# Altium footprint library CHXXX.pcblib: 166 footprints (part 6 of 11)
Each footprint in its own frame and in the unit in brackets; x right, y up, seen from the top. Pads: shape width x height; smd on the part's side, far side on the other; paste and mask are expansions set on the pad; w line width, h text height; cw(c..) or ccw(c..) is an arc to the next point about the centre after c.
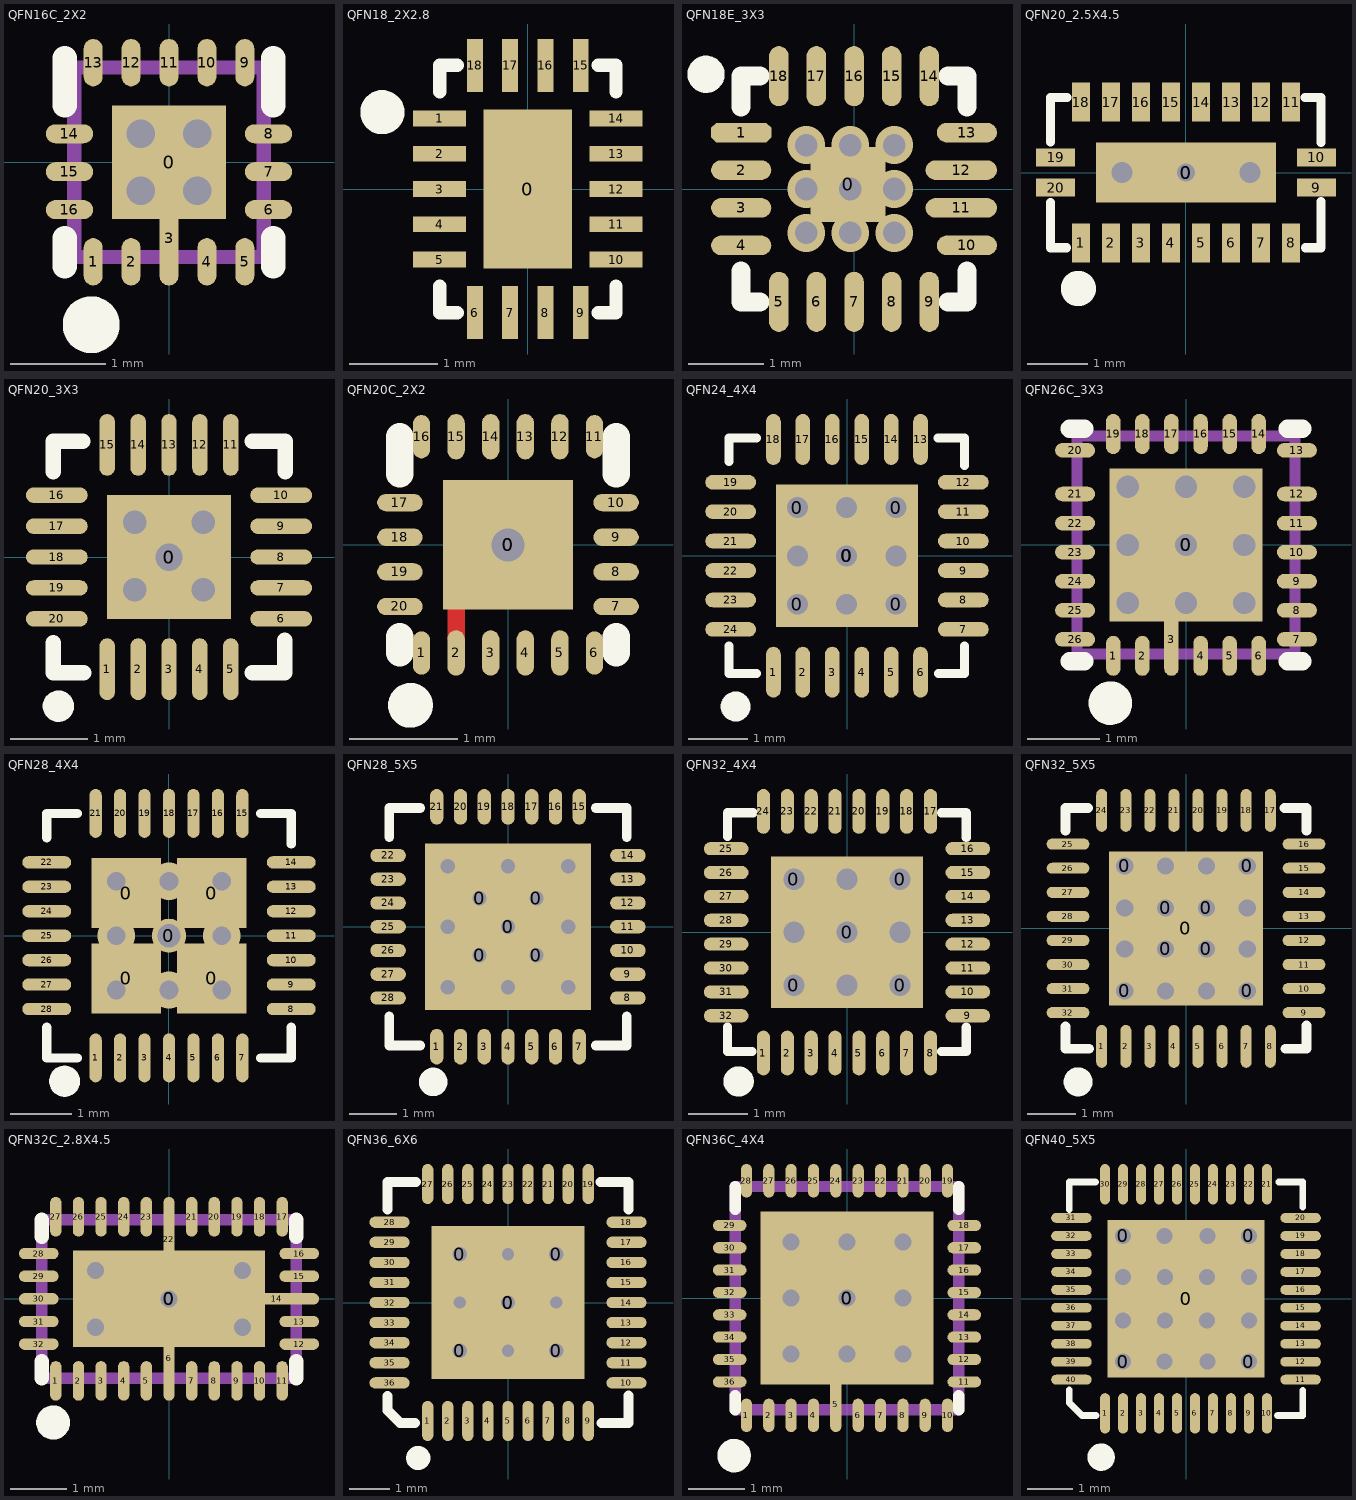
[diagram p5: the footprints below, top view; thin cyan lines are the x and y axes]

## QFN16C_2X2 [mm]
height 9.7
pads (17):
  rect 1.2x1.2 smd mask+0.051: 0(0,0)
  oval 0.2x0.5 smd mask+0.051: 1(-0.8,-1.05) 2(-0.4,-1.05) 4(0.4,-1.05) 5(0.8,-1.05) 9(0.8,1.05) 10(0.4,1.05) 11(0,1.05) 12(-0.4,1.05) 13(-0.8,1.05)
  oval 0.2x1 smd mask+0.051: 3(0,-0.8)
  oval 0.5x0.2 smd mask+0.051: 6(1.05,-0.5) 7(1.05,-0.1) 8(1.05,0.3) 14(-1.05,0.3) 15(-1.05,-0.1) 16(-1.05,-0.5)
via -0.3,0.3 diameter 0.45 hole 0.3
via 0.3,0.3 diameter 0.45 hole 0.3
via 0.3,-0.3 diameter 0.45 hole 0.3
via -0.3,-0.3 diameter 0.45 hole 0.3
TopOverlay:
  circle w0.3: c-0.821,-1.715 r0.15
  lines w0.254: -1.1,-1.1 -1.1,-0.8 ; -1.1,0.6 -1.1,1.1 ; 1.1,-1.1 1.1,-0.8 ; 1.1,0.6 1.1,1.1
Mechanical15:
  lines w0.15: -1,-1 1,-1 1,1 -1,1 -1,-1

## QFN18_2X2.8 [mm]
pads (19):
  rect 1x1.8 smd mask+0.051: 0(0,0)
  rect 0.6x0.18 smd mask+0.051: 1(-1,0.8) 2(-1,0.4) 3(-1,0) 4(-1,-0.4) 5(-1,-0.8) 10(1,-0.8) 11(1,-0.4) 12(1,0) 13(1,0.4) 14(1,0.8)
  rect 0.18x0.6 smd mask+0.051: 6(-0.6,-1.4) 7(-0.2,-1.4) 8(0.2,-1.4) 9(0.6,-1.4) 15(0.6,1.4) 16(0.2,1.4) 17(-0.2,1.4) 18(-0.6,1.4)
TopOverlay:
  circle w0.3: c-1.648,0.871 r0.1
  lines w0.152: -1,-1.1 -1,-1.4 -0.8,-1.4 ; -1,1.1 -1,1.4 -0.8,1.4 ; 0.8,-1.4 1,-1.4 1,-1.1 ; 0.8,1.4 1,1.4 1,1.1

## QFN18E_3X3 [mm]
height 1.3
pads (19):
  rect 1x1 smd mask+0.051: 0(-0.08,0.06)
  oct 0.8x0.26 smd mask+0.051: 1(-1.5,0.75)
  oval 0.8x0.26 smd mask+0.051: 2(-1.5,0.25) 3(-1.5,-0.25) 4(-1.5,-0.75) 10(1.5,-0.75) 13(1.5,0.75)
  oval 0.26x0.8 smd mask+0.051: 5(-1,-1.5) 6(-0.5,-1.5) 7(0,-1.5) 8(0.5,-1.5) 9(1,-1.5) 14(1,1.5) 15(0.5,1.5) 16(0,1.5) 17(-0.5,1.5) 18(-1,1.5)
  oval 0.95x0.26 smd mask+0.051: 11(1.425,-0.25) 12(1.425,0.25)
via -0.051,0 diameter 0.5 hole 0.3
via -0.635,-0.584 diameter 0.5 hole 0.3
via -0.051,-0.584 diameter 0.5 hole 0.3
via 0.533,-0.584 diameter 0.5 hole 0.3
via 0.533,0 diameter 0.5 hole 0.3
via 0.533,0.584 diameter 0.5 hole 0.3
via -0.635,0.584 diameter 0.5 hole 0.3
via -0.635,0 diameter 0.5 hole 0.3
via -0.051,0.584 diameter 0.5 hole 0.3
TopOverlay:
  circle w0.254: c-1.966,1.525 r0.121
  lines w0.254: -1.5,-1.092 -1.5,-1.5 -1.251,-1.5 ; -1.5,1.092 -1.5,1.5 -1.251,1.5 ; 1.251,-1.5 1.5,-1.5 1.5,-1.092 ; 1.251,1.5 1.5,1.5 1.5,1.092

## QFN20_2.5X4.5 [mm]
pads (22):
  rect 3x1 smd mask+0.051: 0(0,0)
  round 0.559 hole 0.305 mask+0.102: 0(0,0)
  rect 0.3x0.65 smd mask+0.051: 1(-1.75,-1.17) 2(-1.25,-1.17) 3(-0.75,-1.17) 4(-0.25,-1.17) 5(0.25,-1.17) 6(0.75,-1.17) 7(1.25,-1.17) 8(1.75,-1.17) 11(1.75,1.17) 12(1.25,1.17) 13(0.75,1.17) 14(0.25,1.17) 15(-0.25,1.17) 16(-0.75,1.17) 17(-1.25,1.17) 18(-1.75,1.17)
  rect 0.65x0.3 smd mask+0.051: 9(2.17,-0.25) 10(2.17,0.25) 19(-2.17,0.25) 20(-2.17,-0.25)
via 1.064,0 diameter 0.508 hole 0.356
via -1.064,0 diameter 0.508 hole 0.356
TopOverlay:
  circle w0.35: c-1.79,-1.93 r0.118
  lines w0.152: -2.257,-0.5 -2.257,-1.251 -1.99,-1.251 ; -2.257,0.51 -2.257,1.249 -1.98,1.249 ; 1.98,1.249 2.243,1.249 2.243,0.5 ; 1.99,-1.251 2.243,-1.251 2.243,-0.48

## QFN20_3X3 [mm]
pads (22):
  rect 1.6x1.6 smd mask+0.051: 0(0,0)
  round 0.508 hole 0.356: 0(0,0)
  oval 0.2x0.8 smd mask+0.051: 1(-0.8,-1.451) 2(-0.4,-1.451) 3(0,-1.451) 4(0.4,-1.451) 5(0.8,-1.451) 11(0.8,1.451) 12(0.4,1.451) 13(0,1.451) 14(-0.4,1.451) 15(-0.8,1.451)
  oval 0.8x0.2 smd mask+0.051: 6(1.451,-0.8) 7(1.451,-0.4) 8(1.451,0) 9(1.451,0.4) 10(1.451,0.8) 16(-1.451,0.8) 17(-1.451,0.4) 18(-1.451,0) 19(-1.451,-0.4) 20(-1.451,-0.8)
via 0.442,-0.422 diameter 0.508 hole 0.305
via -0.442,0.449 diameter 0.508 hole 0.305
via -0.442,-0.422 diameter 0.508 hole 0.305
via 0.442,0.449 diameter 0.508 hole 0.305
TopOverlay:
  circle w0.203: c-1.431,-1.93 r0.102
  lines w0.203: -1.497,-1.108 -1.497,-1.5 -1.105,-1.5 ; -1.497,1.105 -1.497,1.5 -1.118,1.5 ; 1.079,-1.5 1.5,-1.5 1.5,-1.08 ; 1.082,1.5 1.503,1.5 1.503,1.108

## QFN20C_2X2 [mm]
pads (22):
  rect 1.2x1.2 smd mask+0.051: 0(0,0)
  round 0.508 hole 0.305 mask+0.051: 0(0,0)
  oval 0.16x0.4 smd mask+0.051: 1(-0.8,-1) 6(0.8,-1) 11(0.8,1) 16(-0.8,1)
  oval 0.16x0.42 smd mask+0.051: 2(-0.48,-1) 3(-0.16,-1) 4(0.16,-1) 5(0.48,-1) 12(0.48,1) 13(0.16,1) 14(-0.16,1) 15(-0.48,1)
  oval 0.42x0.16 smd mask+0.051: 7(1,-0.57) 8(1,-0.25) 9(1,0.07) 10(1,0.39) 17(-1,0.39) 18(-1,0.07) 19(-1,-0.25) 20(-1,-0.57)
TopLayer:
  rectangle: -0.56,-0.881 -0.4,-0.463
TopOverlay:
  circle w0.254: c-0.903,-1.485 r0.08
  lines w0.254: -1,-1 -1,-0.85 ; -1,0.655 -1,1 ; 1,-1 1,-0.85 ; 1,0.655 1,1
TopSolder:
  rectangle: -0.611,-0.881 -0.349,-0.463

## QFN24_4X4 [mm]
pads (30):
  round 0.508 hole 0.356: 0(-0.844,-0.823) 0(-0.844,0.818) 0(-0.005,-0.003) 0(0.833,-0.823) 0(0.833,0.818)
  rect 2.413x2.413 smd mask+0.051: 0(0,0)
  oval 0.25x0.864 smd mask+0.051: 1(-1.25,-1.976) 2(-0.75,-1.976) 3(-0.25,-1.976) 4(0.25,-1.976) 5(0.75,-1.976) 6(1.25,-1.976) 13(1.25,1.976) 14(0.75,1.976) 15(0.25,1.976) 16(-0.25,1.976) 17(-0.75,1.976) 18(-1.25,1.976)
  oval 0.864x0.25 smd mask+0.051: 7(1.976,-1.25) 8(1.976,-0.75) 9(1.976,-0.25) 10(1.976,0.25) 11(1.976,0.75) 12(1.976,1.25) 19(-1.976,1.25) 20(-1.976,0.75) 21(-1.976,0.25) 22(-1.976,-0.25) 23(-1.976,-0.75) 24(-1.976,-1.25)
via -0.005,0.818 diameter 0.508 hole 0.356
via -0.844,-0.003 diameter 0.508 hole 0.356
via -0.005,-0.823 diameter 0.508 hole 0.356
via 0.833,-0.003 diameter 0.508 hole 0.356
TopOverlay:
  circle w0.254: c-1.892,-2.56 r0.127
  lines w0.152: -2.006,-1.535 -2.006,-2 -1.537,-2 ; -2.006,1.6 -2.006,2 -1.536,2 ; 1.541,2 1.994,2 1.994,1.534 ; 1.551,-2 1.994,-2 1.994,-1.535

## QFN26C_3X3 [mm]
pads (28):
  rect 2.1x2.1 smd mask+0.051: 0(0,0)
  round 0.6 hole 0.3 mask+0.051: 0(0,0)
  oval 0.2x0.55 smd mask+0.051: 1(-1,-1.525) 2(-0.6,-1.525) 4(0.2,-1.525) 5(0.6,-1.525) 6(1,-1.525) 14(1,1.525) 15(0.6,1.525) 16(0.2,1.525) 17(-0.2,1.525) 18(-0.6,1.525) 19(-1,1.525)
  oval 0.2x1 smd mask+0.051: 3(-0.2,-1.3)
  oval 0.55x0.2 smd mask+0.051: 7(1.525,-1.3) 8(1.525,-0.9) 9(1.525,-0.5) 10(1.525,-0.1) 11(1.525,0.3) 12(1.525,0.7) 13(1.525,1.3) 20(-1.525,1.3) 21(-1.525,0.7) 22(-1.525,0.3) 23(-1.525,-0.1) 24(-1.525,-0.5) 25(-1.525,-0.9) 26(-1.525,-1.3)
via -0.8,0 diameter 0.508 hole 0.305
via -0.8,-0.8 diameter 0.508 hole 0.305
via 0,-0.8 diameter 0.508 hole 0.305
via 0.8,-0.8 diameter 0.508 hole 0.305
via 0.8,0 diameter 0.508 hole 0.305
via 0.8,0.8 diameter 0.508 hole 0.305
via 0,0.8 diameter 0.508 hole 0.305
via -0.8,0.8 diameter 0.508 hole 0.305
TopOverlay:
  circle w0.3: c-1.04,-2.175 r0.15
  lines w0.254: -1.6,-1.6 -1.4,-1.6 ; -1.6,1.6 -1.4,1.6 ; 1.4,-1.6 1.6,-1.6 ; 1.4,1.6 1.6,1.6
Mechanical15:
  lines w0.15: -1.5,-1.5 1.5,-1.5 1.5,1.5 -1.5,1.5 -1.5,-1.5

## QFN28_4X4 [mm]
pads (33):
  rect 1.143x1.143 smd mask+0: 0(-0.699,-0.699) 0(-0.699,0.698) 0(0.699,-0.699) 0(0.699,0.698)
  round 0.559 hole 0.381 mask+0.051: 0(0,0)
  oval 0.2x0.8 smd mask+0.051: 1(-1.2,-2) 2(-0.8,-2) 3(-0.4,-2) 4(0,-2) 5(0.4,-2) 6(0.8,-2) 7(1.2,-2) 15(1.2,2) 16(0.8,2) 17(0.4,2) 18(0,2) 19(-0.4,2) 20(-0.8,2) 21(-1.2,2)
  oval 0.8x0.2 smd mask+0.051: 8(2,-1.2) 9(2,-0.8) 10(2,-0.4) 11(2,0) 12(2,0.4) 13(2,0.8) 14(2,1.2) 22(-2,1.2) 23(-2,0.8) 24(-2,0.4) 25(-2,0) 26(-2,-0.4) 27(-2,-0.8) 28(-2,-1.2)
via -0.864,-0.889 diameter 0.61 hole 0.305
via 0.864,-0.889 diameter 0.61 hole 0.305
via 0.864,0.889 diameter 0.61 hole 0.305
via -0.864,0.889 diameter 0.61 hole 0.305
via -0.864,0 diameter 0.61 hole 0.305
via 0.864,0 diameter 0.61 hole 0.305
via 0,-0.889 diameter 0.61 hole 0.305
via 0,0.889 diameter 0.61 hole 0.305
TopOverlay:
  circle w0.254: c-1.708,-2.381 r0.127
  lines w0.152: -2,-1.5 -2,-2 -1.5,-2 ; -2,1.6 -2,2 -1.5,2 ; 1.5,-2 2,-2 2,-1.5 ; 1.5,2 2,2 2,1.5

## QFN28_5X5 [mm]
pads (33):
  round 0.508 hole 0.3: 0(-0.6,-0.6) 0(-0.6,0.6) 0(0.6,-0.6) 0(0.6,0.6)
  rect 3.5x3.5 smd mask+0.051: 0(0,0)
  oval 0.28x0.75 smd mask+0.051: 1(-1.5,-2.525) 2(-1,-2.525) 3(-0.5,-2.525) 4(0,-2.525) 5(0.5,-2.525) 6(1,-2.525) 7(1.5,-2.525) 15(1.5,2.525) 16(1,2.525) 17(0.5,2.525) 18(0,2.525) 19(-0.5,2.525) 20(-1,2.525) 21(-1.5,2.525)
  oval 0.75x0.28 smd mask+0.051: 8(2.525,-1.5) 9(2.525,-1) 10(2.525,-0.5) 11(2.525,0) 12(2.525,0.5) 13(2.525,1) 14(2.525,1.5) 22(-2.525,1.5) 23(-2.525,1) 24(-2.525,0.5) 25(-2.525,0) 26(-2.525,-0.5) 27(-2.525,-1) 28(-2.525,-1.5)
via 0,1.27 diameter 0.61 hole 0.305
via 1.27,1.27 diameter 0.61 hole 0.305
via 1.27,0 diameter 0.61 hole 0.305
via 1.27,-1.27 diameter 0.61 hole 0.305
via 0,-1.27 diameter 0.61 hole 0.305
via -1.27,-1.27 diameter 0.61 hole 0.305
via -1.27,0 diameter 0.61 hole 0.305
via -1.27,1.27 diameter 0.61 hole 0.305
via 0,0 diameter 0.61 hole 0.305
TopOverlay:
  circle w0.305: c-1.573,-3.268 r0.148
  lines w0.203: -2.5,-1.885 -2.5,-2.5 -1.85,-2.5 ; -2.5,1.885 -2.5,2.5 -1.85,2.5 ; 1.85,-2.5 2.5,-2.5 2.5,-1.885 ; 1.85,2.5 2.5,2.5 2.5,1.885

## QFN32_4X4 [mm]
pads (37):
  round 0.508 hole 0.356: 0(-0.889,-0.887) 0(-0.889,0.887) 0(0.889,-0.887) 0(0.889,0.887)
  rect 2.54x2.54 smd mask+0.102: 0(0,0)
  oval 0.22x0.75 smd mask+0.051: 1(-1.4,-2.025) 2(-1,-2.025) 3(-0.6,-2.025) 4(-0.2,-2.025) 5(0.2,-2.025) 6(0.6,-2.025) 7(1,-2.025) 8(1.4,-2.025) 17(1.4,2.025) 18(1,2.025) 19(0.6,2.025) 20(0.2,2.025) 21(-0.2,2.025) 22(-0.6,2.025) 23(-1,2.025) 24(-1.4,2.025)
  oval 0.75x0.22 smd mask+0.051: 9(2.025,-1.4) 10(2.025,-1) 11(2.025,-0.6) 12(2.025,-0.2) 13(2.025,0.2) 14(2.025,0.6) 15(2.025,1) 16(2.025,1.4) 25(-2.025,1.4) 26(-2.025,1) 27(-2.025,0.6) 28(-2.025,0.2) 29(-2.025,-0.2) 30(-2.025,-0.6) 31(-2.025,-1) 32(-2.025,-1.4)
via 0,0.887 diameter 0.508 hole 0.356
via -0.889,0 diameter 0.508 hole 0.356
via 0,-0.887 diameter 0.508 hole 0.356
via 0.889,0 diameter 0.508 hole 0.356
via 0,0 diameter 0.508 hole 0.356
TopOverlay:
  circle w0.254: c-1.816,-2.501 r0.127
  lines w0.152: -2.001,-1.591 -2.001,-1.998 -1.595,-1.998 ; -2.001,1.602 -2.001,2.002 -1.574,2.002 ; 1.583,2.002 1.999,2.002 1.999,1.59 ; 1.585,-1.998 1.999,-1.998 1.999,-1.593

## QFN32_5X5 [mil]
pads (41):
  round 20 hole 14: 0(-50.12,-51.11) 0(-50.12,51.11) 0(-16.71,-16.7) 0(-16.71,16.7) 0(16.71,-16.7) 0(16.71,16.7) 0(50.12,-51.11) 0(50.12,51.11)
  rect 125.98x125.98 smd mask+4: 0(0,0)
  oval 9x35 smd mask+2: 1(-68.9,-96.49) 2(-49.21,-96.49) 3(-29.53,-96.49) 4(-9.84,-96.49) 5(9.84,-96.49) 6(29.53,-96.49) 7(49.21,-96.49) 8(68.9,-96.49) 17(68.9,96.49) 18(49.21,96.49) 19(29.53,96.49) 20(9.84,96.49) 21(-9.84,96.49) 22(-29.53,96.49) 23(-49.21,96.49) 24(-68.9,96.49)
  oval 35x9 smd mask+2: 9(96.49,-68.9) 10(96.49,-49.21) 11(96.49,-29.53) 12(96.49,-9.84) 13(96.49,9.84) 14(96.49,29.53) 15(96.49,49.21) 16(96.49,68.9) 25(-96.49,68.9) 26(-96.49,49.21) 27(-96.49,29.53) 28(-96.49,9.84) 29(-96.49,-9.84) 30(-96.49,-29.53) 31(-96.49,-49.21) 32(-96.49,-68.9)
via -16.71,51.11 diameter 20 hole 14
via 16.71,51.11 diameter 20 hole 14
via 50.12,16.7 diameter 20 hole 14
via 50.12,-16.7 diameter 20 hole 14
via 16.71,-51.11 diameter 20 hole 14
via -16.71,-51.11 diameter 20 hole 14
via -50.12,-16.7 diameter 20 hole 14
via -50.12,16.7 diameter 20 hole 14
TopOverlay:
  circle w12: c-88.22,-125.47 r5.84
  lines w8: -98.43,-80.19 -98.43,-98.43 -79.38,-98.43 ; -98.43,79.88 -98.43,98.43 -80.12,98.43 ; 80.43,98.43 98.42,98.43 98.42,79.79 ; 81.23,-98.43 98.42,-98.43 98.42,-79.42

## QFN32C_2.8X4.5 [mm]
pads (34):
  rect 3.4x1.7 smd mask+0.051: 0(0,0)
  round 0.6 hole 0.3 mask+0.051: 0(0,0)
  oval 0.2x0.7 smd mask+0.051: 1(-2,-1.45) 2(-1.6,-1.45) 3(-1.2,-1.45) 4(-0.8,-1.45) 5(-0.4,-1.45) 7(0.4,-1.45) 8(0.8,-1.45) 9(1.2,-1.45) 10(1.6,-1.45) 11(2,-1.45) 17(2,1.45) 18(1.6,1.45) 19(1.2,1.45) 20(0.8,1.45) 21(0.4,1.45) 23(-0.4,1.45) 24(-0.8,1.45) 25(-1.2,1.45) 26(-1.6,1.45) 27(-2,1.45)
  oval 0.2x1.5 smd mask+0.051: 6(0,-1.05) 22(0,1.05)
  oval 0.7x0.2 smd mask+0.051: 12(2.3,-0.8) 13(2.3,-0.4) 15(2.3,0.4) 16(2.3,0.8) 28(-2.3,0.8) 29(-2.3,0.4) 30(-2.3,0) 31(-2.3,-0.4) 32(-2.3,-0.8)
  oval 1.5x0.2 smd mask+0.051: 14(1.9,0)
via 1.3,0.5 diameter 0.508 hole 0.305
via 1.3,-0.5 diameter 0.508 hole 0.305
via -1.3,-0.5 diameter 0.508 hole 0.305
via -1.3,0.5 diameter 0.508 hole 0.305
TopOverlay:
  circle w0.3: c-2.047,-2.185 r0.15
  lines w0.254: -2.25,-1.4 -2.25,-1.1 ; -2.25,1.1 -2.25,1.4 ; 2.25,-1.4 2.25,-1.1 ; 2.25,1.1 2.25,1.4
Mechanical15:
  lines w0.2: -2.25,-1.4 2.25,-1.4 2.25,1.4 -2.25,1.4 -2.25,-1.4

## QFN36_6X6 [mm]
pads (42):
  round 0.711 hole 0.356: 0(-1.2,-1.2) 0(-1.2,1.2) 0(0,0) 0(1.2,-1.2) 0(1.2,1.2)
  rect 3.8x3.8 smd: 0(0,0)
  oval 0.28x1 smd mask+0.051: 1(-2,-2.95) 2(-1.5,-2.95) 3(-1,-2.95) 4(-0.5,-2.95) 5(0,-2.95) 6(0.5,-2.95) 7(1,-2.95) 8(1.5,-2.95) 9(2,-2.95) 19(2,2.95) 20(1.5,2.95) 21(1,2.95) 22(0.5,2.95) 23(0,2.95) 24(-0.5,2.95) 25(-1,2.95) 26(-1.5,2.95) 27(-2,2.95)
  oval 1x0.28 smd mask+0.051: 10(2.95,-2) 11(2.95,-1.5) 12(2.95,-1) 13(2.95,-0.5) 14(2.95,0) 15(2.95,0.5) 16(2.95,1) 17(2.95,1.5) 18(2.95,2) 28(-2.95,2) 29(-2.95,1.5) 30(-2.95,1) 31(-2.95,0.5) 32(-2.95,0) 33(-2.95,-0.5) 34(-2.95,-1) 35(-2.95,-1.5) 36(-2.95,-2)
via 0,1.2 diameter 0.61 hole 0.305
via -1.2,0 diameter 0.61 hole 0.305
via 0,-1.2 diameter 0.61 hole 0.305
via 1.2,0 diameter 0.61 hole 0.305
TopOverlay:
  circle w0.305: c-2.235,-3.873 r0.148
  lines w0.254: -3,-2.328 -3,-2.684 -2.684,-3 -2.316,-3 ; -3,2.324 -3,3 -2.297,3 ; 2.311,3 3,3 3,2.317 ; 2.33,-3 3,-3 3,-2.315

## QFN36C_4X4 [mm]
pads (38):
  rect 3.1x3.1 smd mask+0.051: 0(0,0)
  round 0.6 hole 0.3 mask+0.051: 0(0,0)
  oval 0.2x0.6 smd mask+0.051: 1(-1.8,-2.1) 2(-1.4,-2.1) 3(-1,-2.1) 4(-0.6,-2.1) 6(0.2,-2.1) 7(0.6,-2.1) 8(1,-2.1) 9(1.4,-2.1) 10(1.8,-2.1) 19(1.8,2.1) 20(1.4,2.1) 21(1,2.1) 22(0.6,2.1) 23(0.2,2.1) 24(-0.2,2.1) 25(-0.6,2.1) 26(-1,2.1) 27(-1.4,2.1) 28(-1.8,2.1)
  oval 0.2x1 smd mask+0.051: 5(-0.2,-1.9)
  oval 0.6x0.2 smd mask+0.051: 11(2.1,-1.5) 12(2.1,-1.1) 13(2.1,-0.7) 14(2.1,-0.3) 15(2.1,0.1) 16(2.1,0.5) 17(2.1,0.9) 18(2.1,1.3) 29(-2.1,1.3) 30(-2.1,0.9) 31(-2.1,0.5) 32(-2.1,0.1) 33(-2.1,-0.3) 34(-2.1,-0.7) 35(-2.1,-1.1) 36(-2.1,-1.5)
via -1,1 diameter 0.508 hole 0.305
via 0,1 diameter 0.508 hole 0.305
via 1,1 diameter 0.508 hole 0.305
via 1,0 diameter 0.508 hole 0.305
via 1,-1 diameter 0.508 hole 0.305
via 0,-1 diameter 0.508 hole 0.305
via -1,-1 diameter 0.508 hole 0.305
via -1,0 diameter 0.508 hole 0.305
TopOverlay:
  circle w0.3: c-2.022,-2.821 r0.15
  lines w0.2: -2,-2 -2,-1.75 ; -2,1.59 -2,2 ; 2,-2 2,-1.75 ; 2,1.59 2,2
Mechanical15:
  lines w0.2: -2,-2 2,-2 2,2 -2,2 -2,-2

## QFN40_5X5 [mm]
pads (45):
  round 0.559 hole 0.356 mask+0.102: 0(-1.4,-1.4) 0(-1.4,1.4) 0(1.4,-1.4) 0(1.4,1.4)
  rect 3.5x3.5 smd mask+0.051: 0(0,0)
  oval 0.22x0.9 smd mask+0.051: 1(-1.8,-2.55) 2(-1.4,-2.55) 3(-1,-2.55) 4(-0.6,-2.55) 5(-0.2,-2.55) 6(0.2,-2.55) 7(0.6,-2.55) 8(1,-2.55) 9(1.4,-2.55) 10(1.8,-2.55) 21(1.8,2.55) 22(1.4,2.55) 23(1,2.55) 24(0.6,2.55) 25(0.2,2.55) 26(-0.2,2.55) 27(-0.6,2.55) 28(-1,2.55) 29(-1.4,2.55) 30(-1.8,2.55)
  oval 0.9x0.22 smd mask+0.051: 11(2.55,-1.8) 12(2.55,-1.4) 13(2.55,-1) 14(2.55,-0.6) 15(2.55,-0.2) 16(2.55,0.2) 17(2.55,0.6) 18(2.55,1) 19(2.55,1.4) 20(2.55,1.8) 31(-2.55,1.8) 32(-2.55,1.4) 33(-2.55,1) 34(-2.55,0.6) 35(-2.55,0.2) 36(-2.55,-0.2) 37(-2.55,-0.6) 38(-2.55,-1) 39(-2.55,-1.4) 40(-2.55,-1.8)
via -0.483,1.4 diameter 0.61 hole 0.356
via 0.483,1.4 diameter 0.61 hole 0.356
via 1.4,0.483 diameter 0.61 hole 0.356
via 1.4,-0.483 diameter 0.61 hole 0.356
via 0.483,-1.4 diameter 0.61 hole 0.356
via -0.483,-1.4 diameter 0.61 hole 0.356
via -1.4,0.483 diameter 0.61 hole 0.356
via -1.4,-0.483 diameter 0.61 hole 0.356
via -0.467,0.483 diameter 0.61 hole 0.356
via 0.467,0.483 diameter 0.61 hole 0.356
via 0.467,-0.483 diameter 0.61 hole 0.356
via -0.467,-0.483 diameter 0.61 hole 0.356
TopOverlay:
  circle w0.305: c-1.89,-3.524 r0.152
  lines w0.152: -2.6,-2.025 -2.6,-2.311 -2.316,-2.6 -2.004,-2.6 ; -2.6,1.988 -2.6,2.6 -2.011,2.6 ; 2.038,-2.6 2.6,-2.6 2.6,-2.043 ; 2.065,2.6 2.6,2.6 2.6,2.039